# Altium schematic symbol library SEMATIK_LIB.SchLib: 632 symbols (part 1 of 21)
Pins are listed as number, name and electrical type; pins without a type are passive.

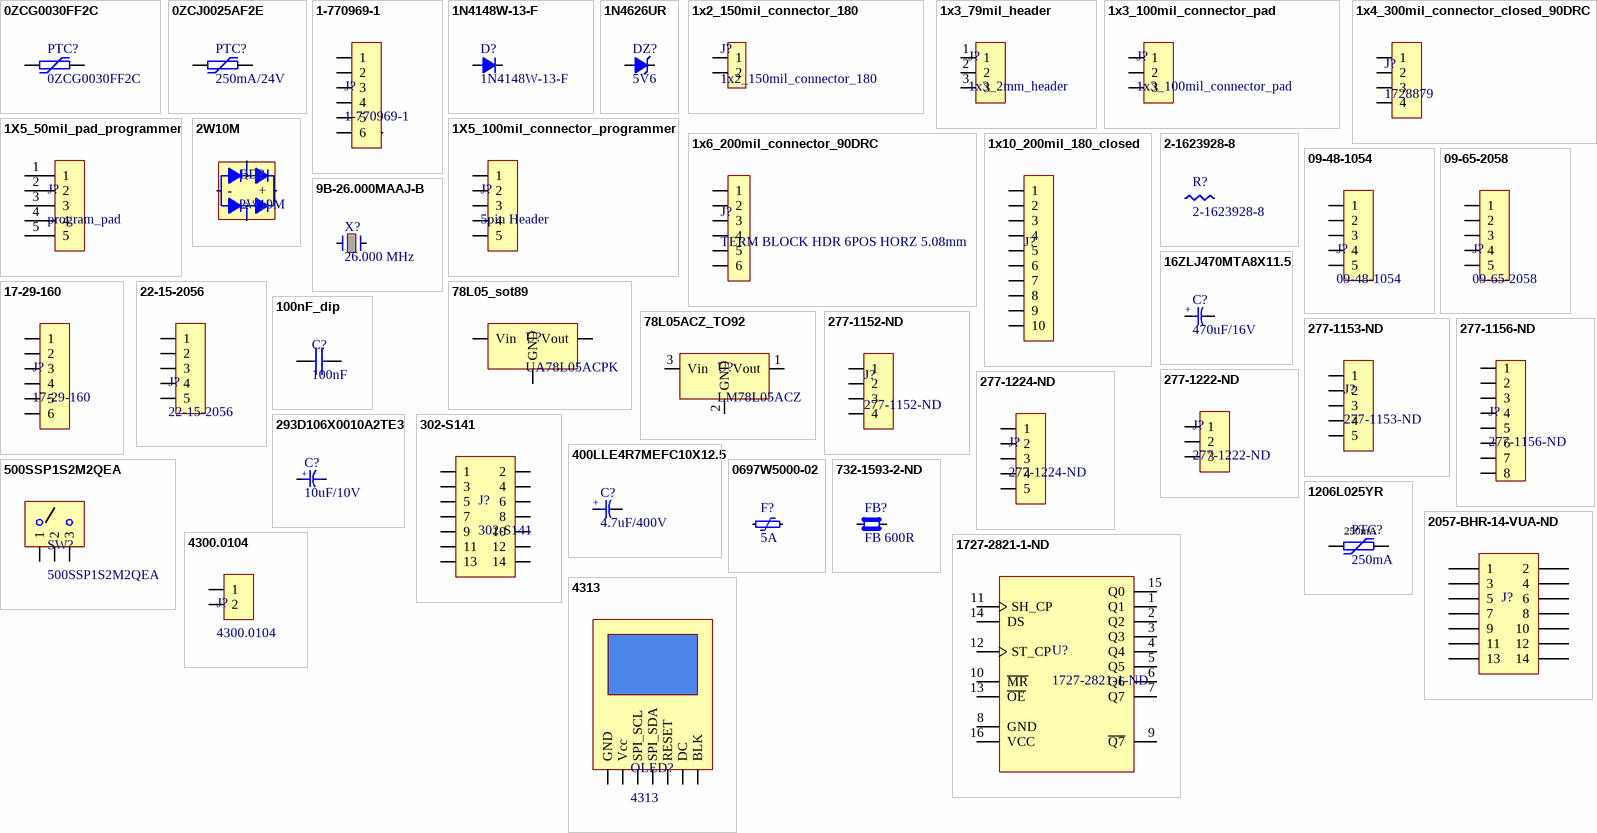
[diagram p0: symbols 0ZCG0030FF2C to 4313]

## 0ZCG0030FF2C
designator PTC?
PTC RESET FUSE 30V 300MA 1812
footprint PTC_1812
pins: 1, 2

## 0ZCJ0025AF2E
designator PTC?, comment 250mA/24V
PTC RESET FUSE 24V 250MA 1206; Manufacturer 1: Bel; Manufacturer Part Number 1: 0ZCJ0025AF2E; Max Current Rating: 40A; Trip Current: 500mA; Time to Trip: 80ms; Approvals: TUV,cURus; Supplier 1: Digi-Key; Description 1: PTC RESET FUSE 24V 250MA 1206; Stock 1: 119699; Pricing 1: 1=0.13, 5=0.13, 10=0.125, 50=0.1114, 100=0.1037, 250=0.09216, 500=0.0768, 1000=0.07296 (USD); Mount: Surface Mount; Case/Package: 1206; Case Code (Metric): 3216; Case Code (Imperial): 1206; Min Operating Temperature: -40°C; Max Operating Temperature: 85°C; Packaging: Cut Tape; Hold Current: 250mA; Length: 0.128inch; Width: 0.065inch; Thickness: 0.03inch; Lead Free: Lead Free; ComponentLink1URL: https://www.belfuse.com/resources/CircuitProtection/datasheets/0ZCJ%20Nov2016.pdf?src-supplier=Digi-Key; ComponentLink1Description: https://www.belfuse.com/resources/CircuitProtection/datasheets/0ZCJ%20Nov2016.pdf?src-supplier=Digi-Key; Supplier Part Number 1: 507-1799-1-ND
footprint PTC_1206
pins: 1, 2

## 1-770969-1
designator J?
CONN HEADER 6POS 4.14MM; Manufacturer: TE Connectivity; Number of Positions: 6; Connector Type: Pin; Gender: Male; Mating Retention: Yes (With); Max Voltage Rating (AC): 600V; Current Rating: 9.5A; Connector System: Wire-to-Board; Contact Retention: No (Without); Number of Ports: 1; Circuit Application: Power; PCB Mount Retention: With; PCB Mounting Orientation: Right Angle; VDE Tested: Yes; Pitch: 0.162inch; Row Spacing: 0.162mm; PCB Thickness: 0.062mm; Approvals: CSA; Supplier 1: Digi-Key; Manufacturer Part Number: 1-770969-1; Stock 1: 1704; Pricing 1: 1 = 3,25000, 10 = 3,12500, 100 = 2,60390, 500 = 2,21330, 1000 = 1,88781, 5000 = 1,69252 (USD); RoHS: Yes; Mount: Through Hole; Color: White; Housing Material: Nylon; Housing Color: White; Contact Material: Brass; Contact Plating: Gold,Tin,Lead; Number of Terminals: 6; Min Operating Temperature: -67°C; Max Operating Temperature: 221°C; Package Quantity: 100; Number of Rows: 2; Fastening Type: Ramp; Packaging: Bag; Termination: Solder; Orientation: Right Angle; Number of Circuits: 6; Number of Contacts: 6; Voltage Rating: 600V; Contact Gender: Male; Sealable: No (Without); Mating Alignment: Yes (With); Number of Power Positions: 6; PCB Mount Alignment: No (Without); Strain Relief: No (Without); Contact Current Rating: 9.5A; Length: 14mm; Height: 11.86mm; Width: 12.7mm; Radiation Hardening: No; ELV: Compliant; Lead Free: Lead Free; Flammability Rating: UL94 V-0; REACH SVHC: Unknown; ComponentLink1URL: https://datasheet.ciiva.com/27054/1930322-27054936.pdf?src-supplier=Jameco; ComponentLink1Description: https://datasheet.ciiva.com/27054/1930322-27054936.pdf?src-supplier=Jameco; ComponentLink2URL: https://datasheet.ciiva.com/11748/0900766b80ea2ab1-11748059.pdf?src-supplier=RSComponents; ComponentLink2Description: https://datasheet.ciiva.com/11748/0900766b80ea2ab1-11748059.pdf?src-supplier=RSComponents; ComponentLink3URL: https://datasheet.ciiva.com/710/eng-cd-770969-h-710667.pdf?src-supplier=Digi-Key; ComponentLink3Description: https://datasheet.ciiva.com/710/eng-cd-770969-h-710667.pdf?src-supplier=Digi-Key; ComponentLink4URL: https://datasheet.ciiva.com/16379/1-770969-1-16379947.pdf?src-supplier=Future+Electronics; ComponentLink4Description: https://datasheet.ciiva.com/16379/1-770969-1-16379947.pdf?src-supplier=Future+Electronics; ComponentLink5URL: https://datasheet.ciiva.com/16655/eng-cs-82181-softshell-high-density-0508-16655086.pdf?src-supplier=Avnet+Europe; ComponentLink5Description: https://datasheet.ciiva.com/16655/eng-cs-82181-softshell-high-density-0508-16655086.pdf?src-supplier=Avnet+Europe; ComponentLink6URL: https://datasheet.ciiva.com/3126/eng-cs-82181-softshell-high-density-0508-3126111.pdf?src-supplier=Avnet; ComponentLink6Description: https://datasheet.ciiva.com/3126/eng-cs-82181-softshell-high-density-0508-3126111.pdf?src-supplier=Avnet; Supplier Part Number 1: A32476-ND
footprint 2x3_163mil_pow_connector_90
footprint 2x3_163mil_pow_connector_90_plug
pins: 1, 2, 3, 4, 5, 6, 7

## 1N4148W-13-F
designator D?
DIODE GEN PURP 100V 150MA SOD123; Manufacturer: Diodes; Max Surge Current: 2A; Forward Voltage: 1.25V; Recovery Time: 4ns; Max Reverse Current: 1uA; Power Dissipation: 400mW; Element Configuration: Single; Supplier 1: Digi-Key; Manufacturer Part Number: 1N4148W-13-F; Stock 1: 182655; Pricing 1: 1 = 0,17000, 10 = 0,15800, 100 = 0,06600, 500 = 0,05184, 1000 = 0,03600, 2000 = 0,03144, 5000 = 0,02820 (USD); RoHS: Yes; Mount: Surface Mount; Case/Package: SOD-123-2; Number of Pins: 2; Weight: 0.000353oz; Min Operating Temperature: -65°C; Max Operating Temperature: 150°C; Packaging: Tape and Reel; Forward Current: 150mA; Package Quantity: 10000; Average Rectified Current: 150mA; Reverse Recovery Time: 4ns; Max Repetitive Reverse Voltage (Vrrm): 100V; Peak Non-Repetitive Surge Current: 2A; Power Rating: 400mW; Max Reverse Voltage (DC): 100V; Length: 2.85mm; Width: 1.7mm; Height: 1.25mm; Radiation Hardening: No; Lead Free: Lead Free; ComponentLink1URL: https://datasheet.ciiva.com/3304/ds30086-3304224.pdf?src-supplier=Avnet; ComponentLink1Description: https://datasheet.ciiva.com/3304/ds30086-3304224.pdf?src-supplier=Avnet; ComponentLink2URL: https://datasheet.ciiva.com/27052/1537977-27052339.pdf?src-supplier=Jameco; ComponentLink2Description: https://datasheet.ciiva.com/27052/1537977-27052339.pdf?src-supplier=Jameco; ComponentLink3URL: https://datasheet.ciiva.com/6383/ds30086-6383133.pdf?src-supplier=Digi-Key; ComponentLink3Description: https://datasheet.ciiva.com/6383/ds30086-6383133.pdf?src-supplier=Digi-Key; ComponentLink4URL: https://datasheet.ciiva.com/16201/ds30086-16201085.pdf?src-supplier=Future+Electronics; ComponentLink4Description: https://datasheet.ciiva.com/16201/ds30086-16201085.pdf?src-supplier=Future+Electronics; ComponentLink5URL: https://datasheet.ciiva.com/6383/ds30086-6383134.pdf?src-supplier=Digi-Key; ComponentLink5Description: https://datasheet.ciiva.com/6383/ds30086-6383134.pdf?src-supplier=Digi-Key; ComponentLink6URL: https://datasheet.ciiva.com/6383/ds30086-6383135.pdf?src-supplier=Digi-Key; ComponentLink6Description: https://datasheet.ciiva.com/6383/ds30086-6383135.pdf?src-supplier=Digi-Key; Supplier Part Number 1: 1N4148W-13FDICT-ND
footprint SOD123
pins: A Anode, C Cathode

## 1N4626UR
designator DZ?, comment 5V6
DIODE ZENER 5.6V 500MW DO213AA; Manufacturer: Microsemi; Manufacturer Part Number: 1N4626UR; Impedance: 1.4kR; Max Reverse Leakage Current: 5uA; Test Current: 250uA; Voltage Tolerance: 5%; Element Configuration: Single; Supplier 1: Digi-Key; RoHS: Yes; Category: Zener Diodes; Stock 1: 421; Pricing 1: 1=6,07000, 10=5,15300, 100=3,89300, 500=3,66400, 1000=3,09150, 2000=3,04570, 5000=2,93120, 10000=2,83960 (USD); Mount: Surface Mount; Number of Pins: 2; Min Operating Temperature: -65°C; Max Operating Temperature: 175°C; Zener Voltage: 5.6V; Power Dissipation: 500mW; Packaging: Bulk; Max Power Dissipation: 500mW; Tolerance: 5%; Radiation Hardening: Yes; ComponentLink1URL: https://datasheet.ciiva.com/26889/getdatasheetpartid-753835-26889327.pdf?src-supplier=Verical; ComponentLink1Description: https://datasheet.ciiva.com/26889/getdatasheetpartid-753835-26889327.pdf?src-supplier=Verical; ComponentLink2URL: https://datasheet.ciiva.com/29596/1n4614ur-1-27ur-1-cdll4614-27-29596157.pdf?src-supplier=Digi-Key; ComponentLink2Description: https://datasheet.ciiva.com/29596/1n4614ur-1-27ur-1-cdll4614-27-29596157.pdf?src-supplier=Digi-Key; Supplier Part Number 1: 1N4626UR-ND
footprint SOD-80
pins: A Anot, K Katot

## 1x2_150mil_connector_180
designator J?
TERM BLOCK HDR 2POS VERT 3.81MM; Manufacturer: Phoenix Contact; Manufacturer Part Number: 1803426; Number of Positions: 2; Number of Levels: 1; Pitch: 0.150" (3.81mm); Header Orientation: Vertical; Current - IEC: 8A; Material Flammability Rating: UL94 V-0; Contact Tail Length: 0.134" (3.40mm); Supplier 1: Digi-Key; RoHS: RoHS Compliant; Category: Connectors, Interconnects; Stock 1: 8426; Pricing 1: 1=0.79, 10=0.759, 50=0.726, 100=0.7062, 250=0.66, 500=0.6072, 1000=0.561, 2500=0.5346, 5000=0.5016 (USD); Packaging: Bulk; Part Status: Active; Type: Header, Male Pins, Shrouded (4 Side); Positions Per Level: 2; Plug Wire Entry: -; Termination Style: Solder; Mounting Type: Through Hole; Wire Gauge or Range - AWG: -; Wire Gauge or Range - mm²: -; Color: Green; Operating Temperature: -; Contact Mating Finish: Tin; Features: -; Ingress Protection: -; Screw Size: -; Torque - Screw: -; Wire Strip Length: -; Contact Material: -; Housing Material: Polybutylene Terephthalate (PBT); Insulation Height: 0.362" (9.20mm); ComponentLink1URL: https://media.digikey.com/pdf/Data%20Sheets/Phoenix%20Contact%20PDFs/1803426.pdf; ComponentLink1Description: https://media.digikey.com/pdf/Data%20Sheets/Phoenix%20Contact%20PDFs/1803426.pdf; Supplier Part Number 1: 277-1221-ND
footprint HDR_1x2_150mil
pins: 1, 2

## 1x3_79mil_header
designator J?, comment 1x3_2mm_header
CONN HEADER PH TOP 3POS 2MM; Manufacturer: JST Sales America Inc.; Manufacturer Part Number: B3B-PH-K-S(LF)(SN); Pitch - Mating: 0.079" (2.00mm); Number of Positions: 3; Number of Positions Loaded: All; Style: Board to Cable/Wire; Shrouding: Shrouded - 4 Wall; Contact Length - Mating: 0.130" (3.30mm); Contact Length - Post: 0.134" (3.40mm); Overall Contact Length: 0.333" (8.45mm); Material Flammability Rating: UL94 V-0; Current Rating: 2A; Voltage Rating: 100V; Mated Stacking Heights: 8mm; Supplier 1: Digi-Key; RoHS: RoHS Compliant; Category: Connectors, Interconnects; Stock 1: 396069; Pricing 1: 1=0.19, 10=0.182, 100=0.1262, 500=0.10676, 1000=0.08736, 5000=0.07765, 10000=0.07037 (USD); Packaging: Bulk; Part Status: Active; Connector Type: Header; Contact Type: Male Pin; Number of Rows: 1; Row Spacing - Mating: -; Mounting Type: Through Hole; Termination: Press-Fit, Solder; Fastening Type: Detent Lock; Insulation Height: 0.236" (6.00mm); Contact Shape: Square; Contact Finish - Mating: Tin; Contact Finish Thickness - Mating: -; Contact Finish - Post: Tin; Contact Material: Brass; Insulation Material: Polyamide (PA66), Nylon 6/6; Features: -; Operating Temperature: -25°C ~ 85°C; Ingress Protection: -; Insulation Color: Natural; Contact Finish Thickness - Post: -; Applications: -; ComponentLink1URL: http://www.jst-mfg.com/product/pdf/eng/ePH.pdf; ComponentLink1Description: http://www.jst-mfg.com/product/pdf/eng/ePH.pdf; Supplier Part Number 1: 455-1705-ND
footprint 1x3_79mil_connector_180
pins: 1, 2, 3

## 1x3_100mil_connector_pad
designator J?
TERM BLOCK HDR 3POS VERT 3.81MM; Manufacturer: Phoenix Contact; Manufacturer Part Number: 1803439; Number of Positions: 3; Number of Levels: 1; Pitch: 0.150" (3.81mm); Header Orientation: Vertical; Current - IEC: 8A; Material Flammability Rating: UL94 V-0; Contact Tail Length: 0.134" (3.40mm); Supplier 1: Digi-Key; RoHS: RoHS Compliant; Category: Connectors, Interconnects; Stock 1: 9406; Pricing 1: 1=1.2, 10=1.15, 50=1.1, 100=1.07, 250=1, 500=0.92, 1000=0.85, 2500=0.81, 5000=0.76 (USD); Packaging: Bulk; Part Status: Active; Type: Header, Male Pins, Shrouded (4 Side); Positions Per Level: 3; Plug Wire Entry: -; Termination Style: Solder; Mounting Type: Through Hole; Wire Gauge or Range - AWG: -; Wire Gauge or Range - mm²: -; Color: Green; Operating Temperature: -; Contact Mating Finish: Tin; Features: -; Ingress Protection: -; Screw Size: -; Torque - Screw: -; Wire Strip Length: -; Contact Material: -; Housing Material: Polybutylene Terephthalate (PBT); Insulation Height: 0.362" (9.20mm); ComponentLink1URL: https://media.digikey.com/pdf/Data%20Sheets/Phoenix%20Contact%20PDFs/1803439.pdf; ComponentLink1Description: https://media.digikey.com/pdf/Data%20Sheets/Phoenix%20Contact%20PDFs/1803439.pdf; Supplier Part Number 1: 277-1222-ND
footprint 1x3_100mil_connector_pad
footprint SOCKET_3.81_1X3_180_CLOSE_WITH_BLOCK
pins: 1, 2, 3

## 1x4_300mil_connector_closed_90DRC
designator J?, comment 1728879
Pluggable Terminal Blocks 4 Pos 7.62mm pitch Through Hole Header; Manufacturer: Phoenix Contact; Current Rating: 16A; Voltage Rating: 500V; Number of Positions: 4; Connector Type: Plug; Number of Levels: 1; Current: 18.5A; Voltage: 300V; Supplier 1: Digi-Key; Manufacturer Part Number: 1728879; Stock 1: 1151; Pricing 1: 1=1.81, 10=1.763, 50=1.6478, 100=1.516, 250=1.40064, 500=1.33472, 1000=1.25233 (USD); Mount: Through Hole; Weight: 1oz; Contact Plating: Tin; Contact Material: Tin; Color: Green; Housing Color: Green; Packaging: Bulk; Termination: Solder; Number of Contacts: 4; Package Quantity: 50; Number of Positions Per Level: 4; Number of Rows: 1; Length: 12mm; Height: 12.1mm; Pitch: 7.62mm; Width: 30.48mm; Lead Free: Lead Free; Flammability Rating: UL94 V-0; ComponentLink1URL: https://media.digikey.com/pdf/Data%20Sheets/Phoenix%20Contact%20PDFs/1728879.pdf?src-supplier=Digi-Key; ComponentLink1Description: https://media.digikey.com/pdf/Data%20Sheets/Phoenix%20Contact%20PDFs/1728879.pdf?src-supplier=Digi-Key; ComponentLink2URL: https://produktinfo.conrad.com/datenblaetter/175000-199999/194738-da-01-en-GRUNDGEHAEUSE__1728879_50_ST.pdf?src-supplier=Conrad; ComponentLink2Description: https://produktinfo.conrad.com/datenblaetter/175000-199999/194738-da-01-en-GRUNDGEHAEUSE__1728879_50_ST.pdf?src-supplier=Conrad; Supplier Part Number 1: 277-8629-ND
footprint 1x4_300mil_connector_90_closed
pins: 1, 2, 3, 4

## 1X5_50mil_pad_programmer
designator J?, comment program_pad
footprint 1x5_50mil_pad_programmer
pins: 1, 2, 3, 4, 5

## 1X5_100mil_connector_programmer
designator J?, comment 5pin Header
footprint 1x5_100mil_Header_programmer
pins: 1, 2, 3, 4, 5

## 1x6_200mil_connector_90DRC
designator J?, comment TERM BLOCK HDR 6POS HORZ 5.08mm
1x6_200mil_connector_90DRC
footprint 1x6_200mil_90_pcb_closed
pins: 1, 2, 3, 4, 5, 6

## 1x10_200mil_180_closed
designator J?, comment TERM BLOCK HDR 10POS VERT 5.08MM  (value not drawn)
footprint 1x10_200MIL_CONNECTOR_180_CLOSED
pins: 1, 2, 3, 4, 5, 6, 7, 8, 9, 10

## 2-1623928-8
designator R?
Res Carbon Film 4.7K Ohm 5% 0.25W(1/4W) -450ppm/C to 0ppm/C Conformal Coated AXL Ammo Pack; Manufacturer 1: TE Connectivity; Resistance: 4.7kR; Temperature Coefficient: 0ppm/°C; Max Power Dissipation: 250mW; Supplier 1: Digi-Key; Manufacturer Part Number 1: 2-1623928-8; Description 1: Res Carbon Film 4.7K Ohm 5% 0.25W(1/4W) -450ppm/C to 0ppm/C Conformal Coated AXL Ammo Pack; Stock 1: 114058; Pricing 1: 1=0.1, 10=0.074, 25=0.0512, 50=0.0396, 100=0.0284, 250=0.02212, 500=0.01758, 1000=0.01247 (USD); Mount: Through Hole; Case/Package: Conformal; Min Operating Temperature: -55°C; Max Operating Temperature: 155°C; Tolerance: 5%; Packaging: Tape and Reel; Composition: Carbon Film; Number of Terminations: 2; Termination: Axial; Package Quantity: 5000; Military Standard: Not; Diameter: 1.85mm; Length: 3.5mm; Radiation Hardening: No; ComponentLink1URL: http://www.te.com/commerce/DocumentDelivery/DDEController?Action=srchrtrv&DocNm=1773195&DocType=Data+Sheet&DocLang=English&PartCntxt=2-1623928-8&src-supplier=Onlinecomponents.com; ComponentLink1Description: http://www.te.com/commerce/DocumentDelivery/DDEController?Action=srchrtrv&DocNm=1773195&DocType=Data+Sheet&DocLang=English&PartCntxt=2-1623928-8&src-supplier=Onlinecomponents.com; ComponentLink2URL: http://www.te.com/commerce/DocumentDelivery/DDEController?Action=srchrtrv&DocNm=1773195&DocType=Data+Sheet&DocLang=English&src-supplier=Avnet; ComponentLink2Description: http://www.te.com/commerce/DocumentDelivery/DDEController?Action=srchrtrv&DocNm=1773195&DocType=Data+Sheet&DocLang=English&src-supplier=Avnet; Supplier Part Number 1: A105934CT-ND
footprint RES_DIP_1.85X3.5
footprint RES_DIP_1.85X3.5+RES_1206
pins: 1, 2

## 2W10M
designator BD?
DIODE BRIDGE 1000V 2A WOM; Manufacturer: GeneSiC Semiconductor; Diode Type: Single Phase; Supplier 1: Digi-Key; Manufacturer Part Number: 2W10M; RoHS: RoHS Compliant; Category: Discrete Semiconductor Products; Stock 1: 0; Pricing 1: 2000=0 (USD); Packaging: Bulk; Part Status: Obsolete; Technology: Standard; Operating Temperature: -65°C ~ 125°C (TJ); Mounting Type: Through Hole; Package / Case: 4-Circular, WOM; Supplier Device Package: WOM; ComponentLink1URL: http://www.genesicsemi.com/images/products_si/bridge/2w06m_thru_2w10m.pdf; ComponentLink1Description: http://www.genesicsemi.com/images/products_si/bridge/2w06m_thru_2w10m.pdf; Supplier Part Number 1: 2W10MGN-ND
footprint WOM_BRIDGE_DIODE
pins: +, -, AC1 ~, AC2 ~

## 09-48-1054
designator J?
RECEPTACLE PCB 5POS 3.96mm FEMALE RIGHT ANGLE; Manufacturer 1: Molex; Description 1: Conn Socket Strip RCP 5 POS 3.96mm Solder RA Thru-Hole Tray; Current Rating: 5A; Voltage Rating: 250V; Contact Resistance: 6mR; Number of Positions: 5; Supplier 1: Digi-Key; Manufacturer Part Number 1: 09-48-1054; Stock 1: 3727; Pricing 1: 1=1.54, 10=1.397, 100=1.197, 500=0.9975, 1000=0.855, 5000=0.7581, 10000=0.741 (USD); Mount: Through Hole; Contact Plating: Tin,Copper; Contact Material: Bronze; Housing Color: White; Housing Material: Polyester; Min Operating Temperature: 0°C; Max Operating Temperature: 75°C; Number of Rows: 1; Packaging: Tray; Contact Gender: Male; Termination: Through Hole; Number of Contacts: 5; Gender: Receptacle; Orientation: Right Angle; Pitch: 3.96mm; Lead Free: Lead Free; ComponentLink1URL: http://www.farnell.com/datasheets/1630073.pdf?src-supplier=Element14; ComponentLink1Description: http://www.farnell.com/datasheets/1630073.pdf?src-supplier=Element14; ComponentLink2URL: http://www.mouser.com/ds/2/276/0009481054_PCB_RECEPTACLES-156450.pdf?src-supplier=Mouser; ComponentLink2Description: http://www.mouser.com/ds/2/276/0009481054_PCB_RECEPTACLES-156450.pdf?src-supplier=Mouser; ComponentLink3URL: https://www.verical.com/server-webapp/html/getDatasheet?partID=745291&src-supplier=Verical; ComponentLink3Description: https://www.verical.com/server-webapp/html/getDatasheet?partID=745291&src-supplier=Verical; Supplier Part Number 1: WM13302-ND
footprint RECEPTACLE_PCB_FEMALE_3.96mm
pins: 1, 2, 3, 4, 5

## 09-65-2058
designator J?
RECEPTACLE PCB 5POS 3.96mm MALE 180DEG; Manufacturer 1: Molex; Description 1: SPOX™ and KK® 396 Wire-to-Board Header, Vertical, with Friction Lock, 5 Circuits; Contact Resistance: 10mR; Max Voltage Rating (AC): 250V; Number of Positions: 5; Current Rating: 7A; Supplier 1: Digi-Key; Manufacturer Part Number 1: 09-65-2058; Stock 1: 4036; Pricing 1: 1=0.59, 10=0.554, 100=0.4246, 500=0.3692, 1000=0.30459, 5000=0.26767, 10000=0.24921 (USD); Mount: Through Hole; Contact Material: Brass; Contact Plating: Tin,Copper; Housing Color: Natural; Housing Material: Nylon; Min Operating Temperature: -40°C; Max Operating Temperature: 105°C; Number of Rows: 1; Packaging: Bulk; Termination: Solder; Number of Contacts: 5; Orientation: Straight; Gender: Male; Package Quantity: 4000; Voltage Rating: 250V; Max Current Rating: 7A; Voltage Rating (DC): 250V; Length: 19.04mm; Height: 13.85mm; Pitch: 3.96mm; Depth: 10.75mm; Radiation Hardening: No; REACH SVHC: Unknown; Lead Free: Lead Free; ComponentLink1URL: http://www.mouser.com/ds/2/276/0009652058_PCB_HEADERS-131639.pdf?src-supplier=Mouser; ComponentLink1Description: http://www.mouser.com/ds/2/276/0009652058_PCB_HEADERS-131639.pdf?src-supplier=Mouser; ComponentLink2URL: http://www.jameco.com/Jameco/Products/ProdDS/523830.pdf?src-supplier=Jameco; ComponentLink2Description: http://www.jameco.com/Jameco/Products/ProdDS/523830.pdf?src-supplier=Jameco; ComponentLink3URL: http://www.jameco.com/Jameco/Products/ProdDS/1961065.pdf?src-supplier=Jameco; ComponentLink3Description: http://www.jameco.com/Jameco/Products/ProdDS/1961065.pdf?src-supplier=Jameco; ComponentLink4URL: http://www.molex.com/webdocs/datasheets/pdf/en-us/0009652058_PCB_HEADERS.pdf?src-supplier=Avnet; ComponentLink4Description: http://www.molex.com/webdocs/datasheets/pdf/en-us/0009652058_PCB_HEADERS.pdf?src-supplier=Avnet; Supplier Part Number 1: WM18826-ND
footprint RECEPTACLE_PCB_MALE_3.96mm
footprint RECEPTACLE_PCB_MALE_3.96mm_PCB
footprint RECEPTACLE_PCB_MALE_3.96mm_PCB_x
pins: 1, 2, 3, 4, 5

## 9B-26.000MAAJ-B
designator X?, comment 26.000 MHz
CRYSTAL 26.0000MHZ 18PF TH; Manufacturer: TXC; Manufacturer Part Number: 9B-26.000MAAJ-B; Frequency Stability: 30ppm; Frequency: 26MHz; ESR (Equivalent Series Resistance): 30R; Supplier 1: Digi-Key; RoHS: Yes; Category: Crystals; Stock 1: 910; Pricing 1: 1=0,39000, 10=0,32500, 50=0,29240, 100=0,26000, 500=0,24700 (USD); Mount: Through Hole; Min Operating Temperature: -20°C; Max Operating Temperature: 70°C; Termination: Radial; Package Quantity: 1000; Frequency Tolerance: 30ppm; Load Capacitance: 18pF; Packaging: Bulk; Tolerance: 30ppm; Length: 0.453inch; Width: 0.197inch; Height: 0.145inch; REACH SVHC: No SVHC; Lead Free: Lead Free; ComponentLink1URL: https://datasheet.ciiva.com/855/9b-855203.pdf?src-supplier=Digi-Key; ComponentLink1Description: https://datasheet.ciiva.com/855/9b-855203.pdf?src-supplier=Digi-Key; ComponentLink2URL: https://datasheet.ciiva.com/1356/number-crystal-basic-1356799.pdf?src-supplier=Element14; ComponentLink2Description: https://datasheet.ciiva.com/1356/number-crystal-basic-1356799.pdf?src-supplier=Element14; Supplier Part Number 1: 887-1029-ND
footprint HC-49/US
pins: 1, 2

## 16ZLJ470MTA8X11.5
designator C?, comment 470uF/16V
CAP ALUM uF 470 16V 20% RADIAL; Manufacturer 1: Rubycon; Manufacturer Part Number 1: 16ZLJ470MTA8X11.5; Description 1: CAP ALUM 470UF 20% 16V RADIAL; Ripple Current (AC): 1.2A; Capacitance: 470uF; Ripple Current: 660mA; Impedance: 75mR; Life (Hours): 9000Hour; Supplier 1: Digi-Key; Stock 1: 22384; Pricing 1: 1=0.43, 10=0.305, 100=0.2006, 500=0.14858 (USD); Mount: Through Hole; Case/Package: Radial; Min Operating Temperature: -40°C; Max Operating Temperature: 105°C; Package Quantity: 1000; Voltage Rating: 16V; Tolerance: 20%; Packaging: Cut Tape; Voltage Rating (DC): 16V; Diameter: 8mm; Height: 11.5mm; Lead Pitch: 0.138inch; Height - Seated (Max): 0.512inch; REACH SVHC: No SVHC; ComponentLink1URL: http://www.rubycon.co.jp/en/catalog/e_pdfs/aluminum/Radial_Lead_Alumi_Eng.pdf?src-supplier=Digi-Key; ComponentLink1Description: http://www.rubycon.co.jp/en/catalog/e_pdfs/aluminum/Radial_Lead_Alumi_Eng.pdf?src-supplier=Digi-Key; ComponentLink2URL: http://www.farnell.com/datasheets/1725816.pdf?src-supplier=Element14; ComponentLink2Description: http://www.farnell.com/datasheets/1725816.pdf?src-supplier=Element14; ComponentLink3URL: http://www.rubycon.co.jp/en/catalog/e_pdfs/aluminum/e_zlj.pdf?src-supplier=Digi-Key; ComponentLink3Description: http://www.rubycon.co.jp/en/catalog/e_pdfs/aluminum/e_zlj.pdf?src-supplier=Digi-Key; Supplier Part Number 1: 1189-1549-1-ND
footprint 8x12_5mm_Cap_Dip
pins: 1, 2
text: +

## 17-29-160
designator J?
TERM BLOCK 6P SIDE ENT 5.08MM PCB; Manufacturer 1: Phoenix Contact; Voltage Rating: 250V; Current Rating: 13.5A; Number of Poles: 6; Number of Levels: 1; Current: 10A; Voltage: 300V; Connector Type: Screw; Wire/Cable Gauge: 26AWG; Stripping Length: 6mm; Approvals: UL,CSA,cULus,CB; Supplier 1: Digi-Key; Manufacturer Part Number 1: 17-29-160; Stock 1: 1994; Pricing 1: 1=3.16, 10=3.026, 50=2.9436, 100=2.751, 250=2.53092, 500=2.33834, 1000=2.22832, 2500=2.09078 (USD); Mount: Through Hole; Number of Pins: 6; Weight: 0.190021oz; Housing Material: Polyamide; Color: Green; Housing Color: Green; Insulation Material: Nylon; Contact Material: Tin; Package Quantity: 100; Packaging: Bulk; Termination: Screw; Max Current Rating: 13.5A; Number of Rows: 1; Max Supply Voltage: 250V; Number of Positions: 6; Number of Positions Per Level: 6; Number of Contacts: 6; Number of Circuits: 6; Orientation: Straight; Length: 30.48mm; Height: 13.5mm; Width: 30.48mm; Depth: 8.1mm; Wire Gauge (Max): 26AWG; Wire Gauge (Min): 26AWG; Pitch: 5.08mm; Radiation Hardening: No; Lead Free: Lead Free; REACH SVHC: No SVHC; Flammability Rating: UL94 V-0; ComponentLink1URL: http://www.farnell.com/datasheets/100421.pdf?src-supplier=Element14; ComponentLink1Description: http://www.farnell.com/datasheets/100421.pdf?src-supplier=Element14; ComponentLink2URL: https://media.digikey.com/pdf/Data%20Sheets/Phoenix%20Contact%20PDFs/1729160.pdf?src-supplier=Digi-Key; ComponentLink2Description: https://media.digikey.com/pdf/Data%20Sheets/Phoenix%20Contact%20PDFs/1729160.pdf?src-supplier=Digi-Key; ComponentLink3URL: https://www.verical.com/server-webapp/html/getDatasheet?partID=177899&src-supplier=Verical; ComponentLink3Description: https://www.verical.com/server-webapp/html/getDatasheet?partID=177899&src-supplier=Verical; ComponentLink4URL: http://uk.rs-online.com/webdocs/0fff/0900766b80fff484.pdf?src-supplier=RSComponents; ComponentLink4Description: http://uk.rs-online.com/webdocs/0fff/0900766b80fff484.pdf?src-supplier=RSComponents; Supplier Part Number 1: 277-1251-ND
footprint SOCKET_5.08_1X6_PCB
pins: 1, 2, 3, 4, 5, 6

## 22-15-2056
designator J?
RECEPTACLE PCB 5POS 2.54MM FEMALE RIGHT ANGLE; Manufacturer 1: Molex; Description 1: CONNECTOR, PCB, 5WAY; Current Rating: 2.5A; Voltage Rating: 250V; Contact Resistance: 20mR; Number of Positions: 5; Glow Wire Compliant: Non-compliant; Supplier 1: Digi-Key; Manufacturer Part Number 1: 22-15-2056; Stock 1: 3608; Pricing 1: 1=0.72, 10=0.672, 100=0.5152, 500=0.448, 1000=0.3696, 5000=0.3248, 10000=0.3024 (USD); Mount: Through Hole; Contact Material: Brass; Contact Plating: Tin; Housing Color: White; Housing Material: Nylon; Min Operating Temperature: 0°C; Max Operating Temperature: 75°C; Number of Rows: 1; Package Quantity: 1800; Packaging: Tray; Contact Gender: Female; Termination: Solder; Number of Contacts: 5; Gender: Receptacle; Orientation: Right Angle; Number of Circuits: 5; Pitch: 2.54mm; Radiation Hardening: No; Halogen Free: Low Halogen; Lead Free: Lead Free; ComponentLink1URL: http://uk.rs-online.com/webdocs/13c2/0900766b813c2e47.pdf?src-supplier=RSComponents; ComponentLink1Description: http://uk.rs-online.com/webdocs/13c2/0900766b813c2e47.pdf?src-supplier=RSComponents; ComponentLink2URL: http://www.mouser.com/ds/2/276/0022152056_PCB_RECEPTACLES-158600.pdf?src-supplier=Mouser; ComponentLink2Description: http://www.mouser.com/ds/2/276/0022152056_PCB_RECEPTACLES-158600.pdf?src-supplier=Mouser; ComponentLink3URL: http://www.molex.com/webdocs/datasheets/pdf/en-us/0022152056_PCB_RECEPTACLES.pdf?src-supplier=Avnet+Europe; ComponentLink3Description: http://www.molex.com/webdocs/datasheets/pdf/en-us/0022152056_PCB_RECEPTACLES.pdf?src-supplier=Avnet+Europe; ComponentLink4URL: http://www.farnell.com/cad/1574985.pdf?src-supplier=Element14; ComponentLink4Description: http://www.farnell.com/cad/1574985.pdf?src-supplier=Element14; ComponentLink5URL: http://www.molex.com/webdocs/datasheets/pdf/en-us/0022152056_PCB_RECEPTACLES.pdf?src-supplier=Avnet; ComponentLink5Description: http://www.molex.com/webdocs/datasheets/pdf/en-us/0022152056_PCB_RECEPTACLES.pdf?src-supplier=Avnet; Supplier Part Number 1: WM3003-ND
footprint 1x5_100mil_Header_programmer
pins: 1, 2, 3, 4, 5

## 78L05_sot89
designator U?, comment UA78L05ACPK
IC REG LINEAR 5V 100MA SOT89-3; Manufacturer: Texas Instruments; Output Configuration: Positive; Output Type: Fixed; Voltage - Input (Max): 20V; Voltage Dropout (Max): 1.7V @ 40mA; PSRR: 49dB (120Hz); Protection Features: Over Current, Over Temperature, Reverse Polarity, Short Circuit; Supplier 1: Digi-Key; Manufacturer Part Number: UA78L05ACPK; RoHS: RoHS Compliant; Category: Integrated Circuits (ICs); Stock 1: 65197; Pricing 1: 1=0.4, 10=0.34, 100=0.2538, 500=0.1994 (USD); Packaging: Cut Tape (CT); Part Status: Active; Voltage - Output (Min/Fixed): 5V; Voltage - Output (Max): -; Current - Output: 100mA; Control Features: -; Operating Temperature: 0°C ~ 125°C; Mounting Type: Surface Mount; Package / Case: TO-243AA; Supplier Device Package: SOT-89-3; Base Part Number: UA78L05A; ComponentLink1URL: http://www.ti.com/lit/ds/symlink/ua78l.pdf; ComponentLink1Description: http://www.ti.com/lit/ds/symlink/ua78l.pdf; Supplier Part Number 1: 296-11118-1-ND; ComponentLink2URL: https://www.fairchildsemi.com/datasheets/MC/MC78L05A.pdf; ComponentLink2Description: https://www.fairchildsemi.com/datasheets/MC/MC78L05A.pdf
footprint SOT-89
pins: 1 Vout, 2 GND, 3 Vin

## 78L05ACZ_TO92
designator U?, comment LM78L05ACZ
IC REG LINEAR 5V 100MA TO92-3; Manufacturer: ON Semiconductor; Output Configuration: Positive; Output Type: Fixed; Voltage - Input (Max): 30V; PSRR: 80dB (120Hz); Protection Features: Over Temperature, Short Circuit; Diode Type: Standard; Current - Average Rectified (Io): 200mA (DC); Speed: Small Signal =< 200mA (Io), Any Speed; Capacitance @ Vr, F: 4pF @ 0V, 1MHz; Manufacturer Part Number: LM78L05ACZ; RoHS: RoHS Compliant; Category: Integrated Circuits (ICs); Packaging: Bulk; Part Status: Active; Voltage - Output (Min/Fixed): 5V; Voltage - Output (Max): -; Voltage Dropout (Max): -; Current - Output: 100mA; Control Features: -; Operating Temperature: -40°C ~ 125°C; Mounting Type: Through Hole; Package / Case: TO-226-3, TO-92-3 (TO-226AA); Supplier Device Package: TO-92-3; Base Part Number: LM78L05; ComponentLink1URL: https://www.fairchildsemi.com/datasheets/MC/MC78L05A.pdf; ComponentLink1Description: https://www.fairchildsemi.com/datasheets/MC/MC78L05A.pdf; Supplier 1: Digi-Key; Supplier Part Number 1: LM78L05ACZXACT-ND; Operating Temperature - Junction: 200°C (Max); ComponentLink2URL: https://assets.nexperia.com/documents/data-sheet/PMLL4148L_PMLL4448.pdf; ComponentLink2Description: https://assets.nexperia.com/documents/data-sheet/PMLL4148L_PMLL4448.pdf
footprint TO-226(TO92)
footprint TO92_ozeltasarım
footprint TO92+SOT89
pins: 1 Vout, 2 GND, 3 Vin

## 100nF_dip
designator C?, comment 100nF
100nF_mercimek; Supplier 1: Digi-Key; Supplier Part Number 1: 478-7318-1-ND
footprint CAP20
pins: 1, 2

## 277-1152-ND
designator J?
TERM BLOCK HDR 4POS VERT 5.08MM; Manufacturer: Phoenix Contact; Manufacturer Part Number: 1755752; Number of Positions: 4; Number of Levels: 1; Pitch: 0.200" (5.08mm); Header Orientation: Vertical; Current - IEC: 12A; Material Flammability Rating: UL94 V-0; Contact Tail Length: 0.154" (3.90mm); Supplier 1: Digi-Key; RoHS: RoHS Compliant; Category: Connectors, Interconnects; Stock 1: 5686; Pricing 1: 1=1.33, 10=1.277, 50=1.221, 100=1.1877, 250=1.11, 500=1.0212, 1000=0.9435, 2500=0.8991, 5000=0.8436 (USD); Packaging: Bulk; Part Status: Active; Type: Header, Male Pins, Shrouded (4 Side); Positions Per Level: 4; Plug Wire Entry: -; Termination Style: Solder; Mounting Type: Through Hole; Wire Gauge or Range - AWG: -; Wire Gauge or Range - mm²: -; Color: Green; Operating Temperature: -; Contact Mating Finish: Tin; Features: -; Ingress Protection: -; Screw Size: -; Torque - Screw: -; Wire Strip Length: -; Contact Material: -; Housing Material: Polyamide (PA), Nylon; Insulation Height: 0.472" (12.00mm); ComponentLink1URL: https://media.digikey.com/pdf/Data%20Sheets/Phoenix%20Contact%20PDFs/1755752.pdf; ComponentLink1Description: https://media.digikey.com/pdf/Data%20Sheets/Phoenix%20Contact%20PDFs/1755752.pdf; Supplier Part Number 1: 277-1152-ND
footprint SOCKET_5.08_1X4_180_CLOSE
footprint SOCKET_5.08_1X4_180_CLOSE_WITH_BLOCK
pins: 1, 2, 3, 4

## 277-1153-ND
designator J?
TERM BLOCK HDR 5POS VERT 5.08MM; Manufacturer: Phoenix Contact; Manufacturer Part Number: 1755765; Number of Positions: 5; Number of Levels: 1; Pitch: 0.200" (5.08mm); Header Orientation: Vertical; Current - IEC: 12A; Material Flammability Rating: UL94 V-0; Contact Tail Length: 0.154" (3.90mm); Supplier 1: Digi-Key; RoHS: RoHS Compliant; Category: Connectors, Interconnects; Stock 1: 5357; Pricing 1: 1=1.67, 10=1.599, 50=1.529, 100=1.4873, 250=1.39, 500=1.2788, 1000=1.1815, 2500=1.1259, 5000=1.0564 (USD); Packaging: Bulk; Part Status: Active; Type: Header, Male Pins, Shrouded (4 Side); Positions Per Level: 5; Plug Wire Entry: -; Termination Style: Solder; Mounting Type: Through Hole; Wire Gauge or Range - AWG: -; Wire Gauge or Range - mm²: -; Color: Green; Operating Temperature: -; Contact Mating Finish: Tin; Features: -; Ingress Protection: -; Screw Size: -; Torque - Screw: -; Wire Strip Length: -; Contact Material: -; Housing Material: Polyamide (PA), Nylon; Insulation Height: 0.472" (12.00mm); ComponentLink1URL: https://media.digikey.com/pdf/Data%20Sheets/Phoenix%20Contact%20PDFs/1755765.pdf; ComponentLink1Description: https://media.digikey.com/pdf/Data%20Sheets/Phoenix%20Contact%20PDFs/1755765.pdf; Supplier Part Number 1: 277-1153-ND
footprint SOCKET_5.08_1X5_180_CLOSE
pins: 1, 2, 3, 4, 5

## 277-1156-ND
designator J?
TERM BLOCK HDR 8POS VERT 5.08MM; Manufacturer: Phoenix Contact; Manufacturer Part Number: 1755794; Max Current Rating: 12A; Voltage Rating: 250V; Number of Positions: 8; Gender: Male; Connector Type: Plug; Number of Levels: 1; Voltage: 300V; Approvals: CB,CSA,cULus,UL,VDE; Hold Current: 300mA; Trip Current: 600mA; Time to Trip: 0.1s; Supplier 1: Digi-Key; Stock 1: 2742; Pricing 1: 1=2.62, 10=2.506, 50=2.438, 100=2.2785, 250=2.09624, 500=1.93672, 1000=1.8456, 2500=1.73167 (USD); Mount: Through Hole; Weight: 5.467464oz; Contact Plating: Tin; Housing Material: Polybutylene; Contact Material: Tin; Color: Green,Grey; Housing Color: Green; Package Quantity: 50; Packaging: Bulk; Current Rating: 12A; Termination: Solder; Number of Contacts: 8; Orientation: Straight; Number of Poles: 8; Number of Rows: 1; Number of Positions Per Level: 8; Current: 12A; Voltage Rating (DC): 250V; Length: 42.64mm; Height: 15.9mm; Width: 42.64mm; Pitch: 5.08mm; Depth: 8.6mm; REACH SVHC: No SVHC; Flammability Rating: UL94 V-0; Lead Free: Lead Free; ComponentLink1URL: https://media.digikey.com/pdf/Data%20Sheets/Phoenix%20Contact%20PDFs/1755794.pdf?src-supplier=Digi-Key; ComponentLink1Description: https://media.digikey.com/pdf/Data%20Sheets/Phoenix%20Contact%20PDFs/1755794.pdf?src-supplier=Digi-Key; ComponentLink2URL: http://www.farnell.com/datasheets/2309821.pdf?src-supplier=Element14; ComponentLink2Description: http://www.farnell.com/datasheets/2309821.pdf?src-supplier=Element14; ComponentLink3URL: https://www.verical.com/server-webapp/html/getDatasheet?partID=176347&src-supplier=Verical; ComponentLink3Description: https://www.verical.com/server-webapp/html/getDatasheet?partID=176347&src-supplier=Verical; ComponentLink4URL: https://produktinfo.conrad.com/datenblaetter/550000-574999/566481-da-01-en-GRUNDGEHAEUSE__1755794_100_ST.pdf?src-supplier=Conrad; ComponentLink4Description: https://produktinfo.conrad.com/datenblaetter/550000-574999/566481-da-01-en-GRUNDGEHAEUSE__1755794_100_ST.pdf?src-supplier=Conrad; ComponentLink5URL: http://www.todaycomponents.com/media/datasheet/1755794.pdf?src-supplier=Today+Components; ComponentLink5Description: http://www.todaycomponents.com/media/datasheet/1755794.pdf?src-supplier=Today+Components; Supplier Part Number 1: 277-1156-ND; Supplier 2: Digi-Key; Stock 2: 56444; Pricing 2: 1=0.14, 5=0.134, 10=0.129, 50=0.1148, 100=0.1069, 250=0.09504, 500=0.0792, 1000=0.07524 (USD); Case/Package: 1812; Case Code (Metric): 4532; Case Code (Imperial): 1812; ComponentLink6URL: https://www.belfuse.com/resources/CircuitProtection/datasheets/0ZCG%20Nov2016.pdf?src-supplier=Digi-Key; ComponentLink6Description: https://www.belfuse.com/resources/CircuitProtection/datasheets/0ZCG%20Nov2016.pdf?src-supplier=Digi-Key; Supplier Part Number 2: 507-1758-1-ND
footprint SOCKET_5.08_1X8_180_CLOSE
footprint SOCKET_5.08_1X8_180_CLOSE_WITH_PLUG
pins: 1, 2, 3, 4, 5, 6, 7, 8

## 277-1222-ND
designator J?
TERM BLOCK HDR 3POS VERT 3.81MM; Manufacturer: Phoenix Contact; Manufacturer Part Number: 1803439; Number of Positions: 3; Number of Levels: 1; Pitch: 0.150" (3.81mm); Header Orientation: Vertical; Current - IEC: 8A; Material Flammability Rating: UL94 V-0; Contact Tail Length: 0.134" (3.40mm); Supplier 1: Digi-Key; RoHS: RoHS Compliant; Category: Connectors, Interconnects; Stock 1: 9406; Pricing 1: 1=1.2, 10=1.15, 50=1.1, 100=1.07, 250=1, 500=0.92, 1000=0.85, 2500=0.81, 5000=0.76 (USD); Packaging: Bulk; Part Status: Active; Type: Header, Male Pins, Shrouded (4 Side); Positions Per Level: 3; Plug Wire Entry: -; Termination Style: Solder; Mounting Type: Through Hole; Wire Gauge or Range - AWG: -; Wire Gauge or Range - mm²: -; Color: Green; Operating Temperature: -; Contact Mating Finish: Tin; Features: -; Ingress Protection: -; Screw Size: -; Torque - Screw: -; Wire Strip Length: -; Contact Material: -; Housing Material: Polybutylene Terephthalate (PBT); Insulation Height: 0.362" (9.20mm); ComponentLink1URL: https://media.digikey.com/pdf/Data%20Sheets/Phoenix%20Contact%20PDFs/1803439.pdf; ComponentLink1Description: https://media.digikey.com/pdf/Data%20Sheets/Phoenix%20Contact%20PDFs/1803439.pdf; Supplier Part Number 1: 277-1222-ND
footprint SOCKET_3.81_1X3_180_CLOSE
footprint SOCKET_3.81_1X3_180_CLOSE_WITH_PLUG
pins: 1, 2, 3

## 277-1224-ND
designator J?
TERM BLOCK HDR 5POS VERT 3.81MM; Manufacturer: Phoenix Contact; Manufacturer Part Number: 1803455; Number of Positions: 5; Number of Levels: 1; Pitch: 0.150" (3.81mm); Header Orientation: Vertical; Current - IEC: 8A; Material Flammability Rating: UL94 V-0; Contact Tail Length: 0.134" (3.40mm); Current Rating: 12A; Voltage Rating: 250V; Number of Positions Per Level: 6; Current: 15A; Voltage: 300V; Connector Type: Plug; Gender: Male; Voltage Rating (DC): 320V; Approvals: UL,CSA,VDE,EN; Supplier 1: Digi-Key; RoHS: RoHS Compliant; Category: Connectors, Interconnects; Stock 1: 4019; Pricing 1: 1=1.99, 10=1.909, 50=1.826, 100=1.7762, 250=1.66, 500=1.5272, 1000=1.411, 2500=1.3446, 5000=1.2616 (USD); Packaging: Bulk; Part Status: Active; Type: Header, Male Pins, Shrouded (4 Side); Positions Per Level: 5; Plug Wire Entry: -; Termination Style: Solder; Mounting Type: Through Hole; Wire Gauge or Range - AWG: -; Wire Gauge or Range - mm²: -; Color: Green; Operating Temperature: -; Contact Mating Finish: Tin; Features: -; Ingress Protection: -; Screw Size: -; Torque - Screw: -; Wire Strip Length: -; Contact Material: -; Housing Material: Polybutylene Terephthalate (PBT); Insulation Height: 0.362" (9.20mm); ComponentLink1URL: https://media.digikey.com/pdf/Data%20Sheets/Phoenix%20Contact%20PDFs/1803455.pdf; ComponentLink1Description: https://media.digikey.com/pdf/Data%20Sheets/Phoenix%20Contact%20PDFs/1803455.pdf; Supplier Part Number 1: 277-1224-ND; Supplier 2: Digi-Key; Manufacturer 2: Phoenix Contact; Manufacturer Part Number 2: 1757284; Stock 2: 1401; Pricing 2: 1=1.92, 10=1.836, 50=1.7864, 100=1.6695, 250=1.53596, 500=1.41908, 1000=1.35231, 2500=1.26882 (USD); Mount: Through Hole; Weight: 5.396916oz; Contact Plating: Tin; Housing Color: Green; Package Quantity: 50; Termination: Solder; Number of Rows: 1; Number of Contacts: 6; Max Current Rating: 12A; Orientation: Right Angle; Number of Poles: 6; Length: 32.48mm; Height: 12.1mm; Width: 32.4mm; Depth: 12mm; Flammability Rating: UL94 V-0; Lead Free: Lead Free; REACH SVHC: No SVHC; ComponentLink2URL: https://media.digikey.com/pdf/Data%20Sheets/Phoenix%20Contact%20PDFs/1757284.pdf?src-supplier=Onlinecomponents.com; ComponentLink2Description: https://media.digikey.com/pdf/Data%20Sheets/Phoenix%20Contact%20PDFs/1757284.pdf?src-supplier=Onlinecomponents.com; ComponentLink3URL: https://www.verical.com/server-webapp/html/getDatasheet?partID=176353&src-supplier=Verical; ComponentLink3Description: https://www.verical.com/server-webapp/html/getDatasheet?partID=176353&src-supplier=Verical; ComponentLink4URL: http://www.farnell.com/datasheets/2309815.pdf?src-supplier=Newark; ComponentLink4Description: http://www.farnell.com/datasheets/2309815.pdf?src-supplier=Newark; ComponentLink5URL: https://media.digikey.com/pdf/Data%20Sheets/Phoenix%20Contact%20PDFs/1757284.pdf?src-supplier=Allied+Electronics; ComponentLink5Description: https://media.digikey.com/pdf/Data%20Sheets/Phoenix%20Contact%20PDFs/1757284.pdf?src-supplier=Allied+Electronics; ComponentLink6URL: https://media.digikey.com/pdf/Data%20Sheets/Phoenix%20Contact%20PDFs/1757284.pdf?src-supplier=Digi-Key; ComponentLink6Description: https://media.digikey.com/pdf/Data%20Sheets/Phoenix%20Contact%20PDFs/1757284.pdf?src-supplier=Digi-Key; ComponentLink7URL: http://www.farnell.com/datasheets/2309815.pdf?src-supplier=Element14; ComponentLink7Description: http://www.farnell.com/datasheets/2309815.pdf?src-supplier=Element14; ComponentLink8URL: http://www.todaycomponents.com/media/datasheet/1757284.pdf?src-supplier=Today+Components; ComponentLink8Description: http://www.todaycomponents.com/media/datasheet/1757284.pdf?src-supplier=Today+Components; ComponentLink9URL: https://produktinfo.conrad.com/datenblaetter/550000-574999/569014-da-01-en-GRUNDGEHAEUSE__1757284_100_ST.pdf?src-supplier=Conrad; ComponentLink9Description: https://produktinfo.conrad.com/datenblaetter/550000-574999/569014-da-01-en-GRUNDGEHAEUSE__1757284_100_ST.pdf?src-supplier=Conrad
pins: 1, 2, 3, 4, 5

## 293D106X0010A2TE3
designator C?, comment 10uF/10V
CAP TANT uF 10 10V 20% 1206; Manufacturer: Vishay Sprague; Manufacturer Part Number: 293D106X0010A2TE3; Dielectric Material: Tantalum; Capacitance: 10uF; ESR (Equivalent Series Resistance): 3.4R; Ripple Current: 150mA; Leakage Current: 1uA; Polarity: Polar; Dissipation Factor: 6%; Supplier 1: Digi-Key; Stock 1: 26015; Mount: Surface Mount,PCB; Case/Package: 1206; Number of Pins: 2; Case Code (Metric): 3216; Case Code (Imperial): 1206; Min Operating Temperature: -55°C; Max Operating Temperature: 125°C; Tolerance: 20%; Voltage Rating: 10V; Packaging: Tape and Reel; Package Quantity: 2000; Voltage Rating (DC): 10V; Termination: SMD/SMT; Features: General Purpose; Length: 3.2mm; Height: 1.8mm; Width: 0.063inch; Height - Seated (Max): 0.071inch; Depth: 1.6mm; Radiation Hardening: No; REACH SVHC: Unknown; Lead Free: Lead Free; ComponentLink1URL: http://www.jameco.com/Jameco/Products/ProdDS/1931149.pdf?src-supplier=Jameco; ComponentLink1Description: http://www.jameco.com/Jameco/Products/ProdDS/1931149.pdf?src-supplier=Jameco; ComponentLink2URL: http://www.vishay.com/docs/40002/293d.pdf?src-supplier=Avnet; ComponentLink2Description: http://www.vishay.com/docs/40002/293d.pdf?src-supplier=Avnet; ComponentLink3URL: http://www.vishay.com/docs/40002/293d.pdf?src-supplier=Digi-Key; ComponentLink3Description: http://www.vishay.com/docs/40002/293d.pdf?src-supplier=Digi-Key; ComponentLink4URL: http://www.vishay.com/docs/40002/293d.pdf?src-supplier=Avnet+Europe; ComponentLink4Description: http://www.vishay.com/docs/40002/293d.pdf?src-supplier=Avnet+Europe; ComponentLink5URL: http://www.farnell.com/datasheets/2045658.pdf?src-supplier=Element14; ComponentLink5Description: http://www.farnell.com/datasheets/2045658.pdf?src-supplier=Element14; ComponentLink6URL: http://www.farnell.com/datasheets/1796648.pdf?src-supplier=Element14; ComponentLink6Description: http://www.farnell.com/datasheets/1796648.pdf?src-supplier=Element14; ComponentLink7URL: http://www.vishay.com/docs/40002/293d.pdf?src-supplier=Future+Electronics; ComponentLink7Description: http://www.vishay.com/docs/40002/293d.pdf?src-supplier=Future+Electronics; ComponentLink8URL: http://www.mouser.com/ds/2/427/293d-239871.pdf?src-supplier=Mouser; ComponentLink8Description: http://www.mouser.com/ds/2/427/293d-239871.pdf?src-supplier=Mouser; ComponentLink9URL: https://www.alliedelec.com/m/d/7dc9f301682605e5c5665c787edb7bb9.pdf?src-supplier=Allied+Electronics; ComponentLink9Description: https://www.alliedelec.com/m/d/7dc9f301682605e5c5665c787edb7bb9.pdf?src-supplier=Allied+Electronics; Supplier Part Number 1: 718-1118-6-ND
footprint CAP_TANTALUM_A_Case_1206
pins: 1, 2
text: +

## 302-S141
designator J?
BOX HEADER VERT 14POS 2.54MM; Manufacturer 1: On-Shore Technology; Description 1: CONN HEADER VERT 14POS 2.54MM; Number of Positions: 14; Connector Type: Male Pin; Pitch: 0.1inch; System: Connector; Supplier 1: Digi-Key; Manufacturer Part Number 1: 302-S141; Stock 1: 3142; Pricing 1: 1=0.32, 10=0.301, 200=0.2107, 600=0.1806, 1000=0.1505, 5000=0.129, 10000=0.1204 (USD); Mount: Through Hole; Color: Black; Contact Plating: Gold; Number of Rows: 2; Packaging: Tray; Termination: Solder; Row Spacing: 0.1inch; ComponentLink1URL: http://www.on-shore.com/wp-content/uploads/2018/04/302-SXX1.pdf?src-supplier=Digi-Key; ComponentLink1Description: http://www.on-shore.com/wp-content/uploads/2018/04/302-SXX1.pdf?src-supplier=Digi-Key; Supplier Part Number 1: ED10522-ND
footprint 2x7_100mil_boxheader_idc14
pins: 1, 2, 3, 4, 5, 6, 7, 8, 9, 10, 11, 12, 13, 14

## 400LLE4R7MEFC10X12.5
designator C?, comment 4.7uF/400V
CAP ALUM uF 4.7 400V 20% RADIAL; Manufacturer: Rubycon; Manufacturer Part Number: 400LLE4R7MEFC10X12.5; Capacitance: 4.7uF; Ripple Current: 61mA; Life (Hours): 15000Hour; Supplier 1: Digi-Key; Stock 1: 36795; Pricing 1: 1 = 0,59000, 10 = 0,41400, 50 = 0,31280, 100 = 0,27240, 500 = 0,20180, 1000 = 0,17153, 2500 = 0,16144, 5000 = 0,15135 (USD); RoHS: Yes; Mount: Through Hole; Case/Package: Radial; Min Operating Temperature: -40°C; Max Operating Temperature: 105°C; Tolerance: 20%; Package Quantity: 1000; Voltage Rating: 400V; Packaging: Bulk; Termination: Radial; Voltage Rating (DC): 400V; Diameter: 10mm; Height: 12.5mm; Lead Pitch: 0.197inch; Height - Seated (Max): 0.571inch; Radiation Hardening: No; ComponentLink1URL: https://datasheet.ciiva.com/6327/e-lle-6327238.pdf?src-supplier=Digi-Key; ComponentLink1Description: https://datasheet.ciiva.com/6327/e-lle-6327238.pdf?src-supplier=Digi-Key; Supplier Part Number 1: 1189-1334-ND
footprint Cap_Alu_5x10x14.5mm
pins: 1, 2
text: +

## 500SSP1S2M2QEA
designator SW?
SWITCH SLIDE SPDT 5A 120V 4.7mm; Manufacturer: E-Switch; Mechanical Life: 30000Cycles; Actuator Material: Nylon,Polyamide; Switch Function: On-On; Actuator Type: Standard; Voltage Rating (DC): 28V; Switch Travel: 2.16mm; Actuator Length: 7.24mm; Supplier 1: Digi-Key; Manufacturer Part Number: 500SSP1S2M2QEA; Stock 1: 4439; Pricing 1: 1 = 2,51000, 10 = 2,36200, 25 = 2,14760, 100 = 1,86120, 250 = 1,68732, 500 = 1,56460, 1000 = 1,45212, 2500 = 1,31918, 5000 = 1,22714 (USD); RoHS: Yes; Mount: Through Hole; Contact Material: Copper Alloy; Contact Plating: Silver; Min Operating Temperature: -30°C; Max Operating Temperature: 85°C; Throw Configuration: SPDT; Termination: PC Pin; Packaging: Bulk; Electrical Life: 30000Cycles; Orientation: Vertical; Current Rating: 5A; Voltage Rating (AC): 120V; Package Quantity: 1; ComponentLink1URL: https://datasheet.ciiva.com/2890/t511028-2890360.pdf?src-supplier=Digi-Key; ComponentLink1Description: https://datasheet.ciiva.com/2890/t511028-2890360.pdf?src-supplier=Digi-Key; Supplier Part Number 1: EG5137-ND
footprint slideswitch_500SSP1S2M2QEA
pins: 1, 2, 3

## 0697W5000-02
designator F?, comment 5A
FUSE 5A 350V RADIAL; Manufacturer 1: Bel TRP; Manufacturer Part Number 1: 0697W5000-02; Voltage Rating (DC): 72V; DC Cold Resistance: 9mR; Fuse Type: Board Mount (Cartridge Style Excluded); Approvals: VDE,cURus,CQC,PSE; Supplier 1: Digi-Key; Stock 1: 1861; Pricing 1: 1=0,29000 (USD); RoHS: Yes; Mount: Through Hole; Case/Package: Radial; Number of Pins: 2; Contact Plating: Tin,Matte; Min Operating Temperature: -55°C; Max Operating Temperature: 125°C; Packaging: Tape and Reel; Current Rating: 5A; Voltage Rating (AC): 350V; Voltage Rating: 350V; Length: 0.329inch; Width: 0.157inch; Height: 0.307inch; RoHS Compliant: Yes; ComponentLink1URL: http://www.mouser.com/ds/2/643/0697W-594970.pdf?src-supplier=Mouser; ComponentLink1Description: http://www.mouser.com/ds/2/643/0697W-594970.pdf?src-supplier=Mouser; ComponentLink2URL: http://belfuse.com/pdfs/0697W.pdf?src-supplier=Avnet; ComponentLink2Description: http://belfuse.com/pdfs/0697W.pdf?src-supplier=Avnet; ComponentLink3URL: http://www.belfuse.com/resources/CircuitProtection/datasheets/0697W Mar2016.pdf?src-supplier=Digi-Key; ComponentLink3Description: http://www.belfuse.com/resources/CircuitProtection/datasheets/0697W Mar2016.pdf?src-supplier=Digi-Key; Supplier Part Number 1: 507-1840-1-ND
footprint FUSE_BOX_200mil_(330x160_320)
pins: 1, 2